# Altium schematic symbol library CL10C180JB8NNNC.SchLib: 1 symbol
Pins are listed as number, name and electrical type; pins without a type are passive.

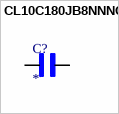
[diagram p0: symbol CL10C180JB8NNNC]

## CL10C180JB8NNNC
designator C?
Cap Ceramic 18pF 50VDC C0G 5% SMD 0603 Paper T/R; MF: {'manufacturer': u'Samsung Electro-Mechanics'}; MP: CL10C180JB8NNNC; Package: None; Price: None; Value: *; Availability: Unavailable
footprint CAPC1608X90N
pins: 1, 2